# Altium footprint library SpriteAntenna.PCBLIB: 1 footprints
Each footprint in its own frame and in the unit in brackets; x right, y up, seen from the top. Pads: shape width x height; smd on the part's side, far side on the other; paste and mask are expansions set on the pad; w line width, h text height; cw(c..) or ccw(c..) is an arc to the next point about the centre after c.
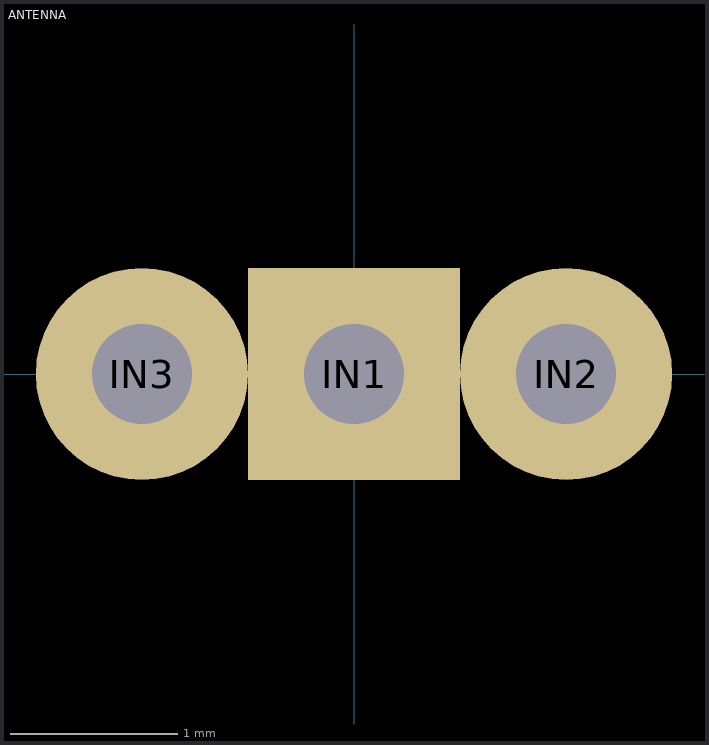
[diagram p0: the footprint, top view; thin cyan lines are the x and y axes]

## ANTENNA [mil]
pads (3):
  rect 50x50 hole 23.62: IN1(0,0)
  round 50 hole 23.62: IN2(50,0) IN3(-50,0)